# Altium footprint library Z-Filter.PCBLIB: 1 footprints
Each footprint in its own frame and in the unit in brackets; x right, y up, seen from the top. Pads: shape width x height; smd on the part's side, far side on the other; paste and mask are expansions set on the pad; w line width, h text height; cw(c..) or ccw(c..) is an arc to the next point about the centre after c.
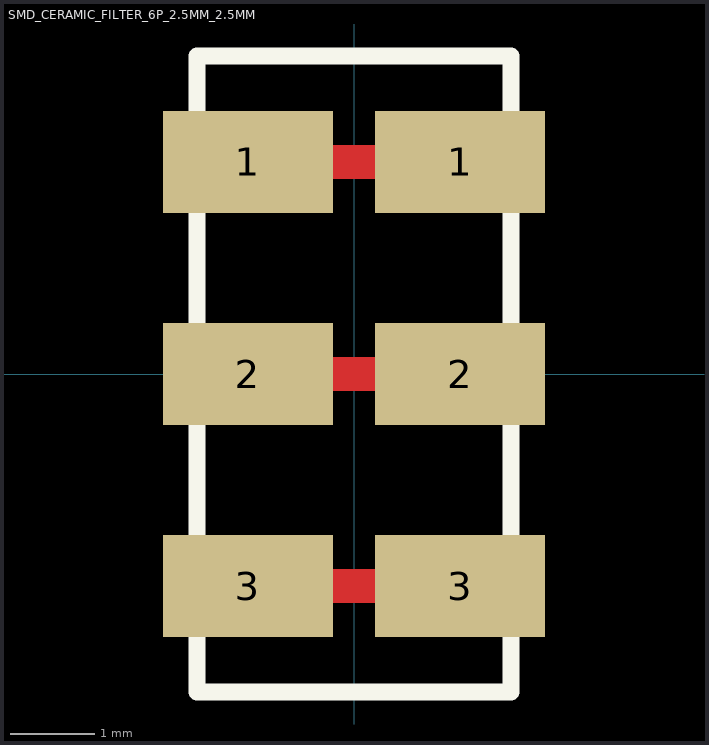
[diagram p0: the footprint, top view; thin cyan lines are the x and y axes]

## SMD_CERAMIC_FILTER_6P_2.5MM_2.5MM [mm]
height 1
pads (6):
  rect 2x1.2 smd: 1(-1.25,2.5) 1(1.25,2.5) 2(-1.25,0) 2(1.25,0) 3(-1.25,-2.5) 3(1.25,-2.5)
Top Layer:
  lines w0.4: -0.55,-2.5 0.45,-2.5 ; -0.55,0 0.45,0 ; -0.55,2.5 0.45,2.5
Top Overlay:
  lines w0.2: -0.625,3.75 1.85,3.75 1.85,-3.75 -1.85,-3.75 -1.85,3.75 0.625,3.75